# Altium schematic symbol library Nuvoton_M0519 Series.SchLib: 5 symbols
Pins are listed as number, name and electrical type; pins without a type are passive.

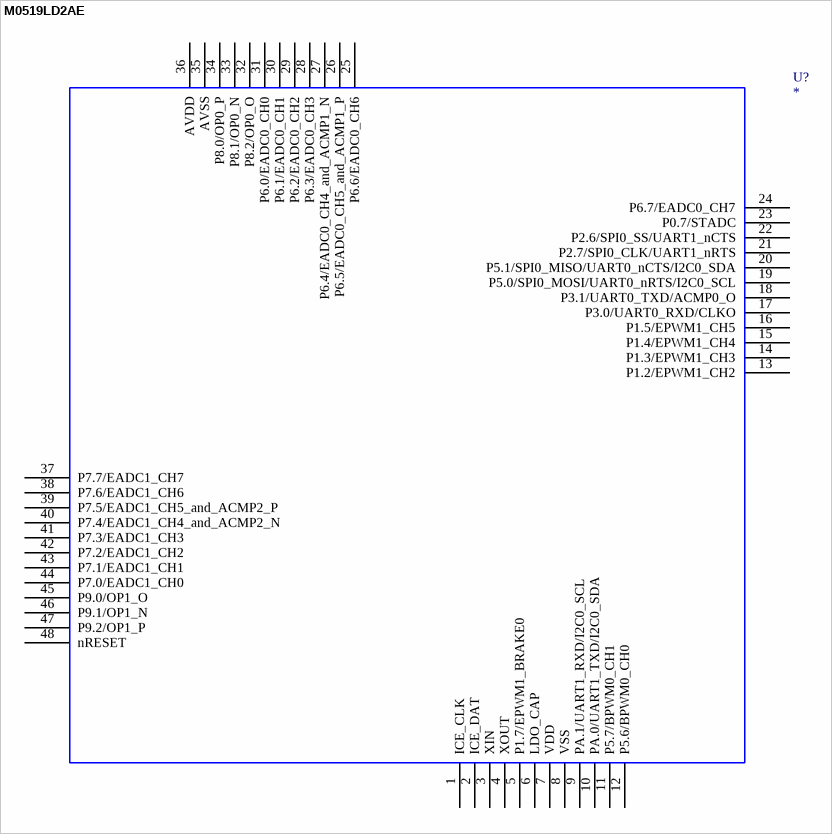
[diagram p0: symbol M0519LD2AE]

## M0519LD2AE
designator U?
M0519LD2AE; OriginalSymbolOrigin: *; M0519LD2AE: *; Value: *
footprint TSQFP50P900X900X150-48N (TSQFP, 48-Leads, Body 7.00x7.00mm, Pitch 0.50mm, IPC Medium Density)
footprint TSQFP50P900X900X150-48M (TSQFP, 48-Leads, Body 7.00x7.00mm, Pitch 0.50mm, IPC Low Density)
footprint TSQFP50P900X900X150-48L (TSQFP, 48-Leads, Body 7.00x7.00mm, Pitch 0.50mm, IPC High Density)
pins: 1 ICE_CLK, 2 ICE_DAT, 3 XIN, 4 XOUT, 5 P1.7/EPWM1_BRAKE0, 6 LDO_CAP, 7 VDD, 8 VSS, 9 PA.1/UART1_RXD/I2C0_SCL, 10 PA.0/UART1_TXD/I2C0_SDA, 11 P5.7/BPWM0_CH1, 12 P5.6/BPWM0_CH0, 13 P1.2/EPWM1_CH2, 14 P1.3/EPWM1_CH3, 15 P1.4/EPWM1_CH4, 16 P1.5/EPWM1_CH5, 17 P3.0/UART0_RXD/CLKO, 18 P3.1/UART0_TXD/ACMP0_O, 19 P5.0/SPI0_MOSI/UART0_nRTS/I2C0_SCL, 20 P5.1/SPI0_MISO/UART0_nCTS/I2C0_SDA, 21 P2.7/SPI0_CLK/UART1_nRTS, 22 P2.6/SPI0_SS/UART1_nCTS, 23 P0.7/STADC, 24 P6.7/EADC0_CH7, 25 P6.6/EADC0_CH6, 26 P6.5/EADC0_CH5_and_ACMP1_P, 27 P6.4/EADC0_CH4_and_ACMP1_N, 28 P6.3/EADC0_CH3, 29 P6.2/EADC0_CH2, 30 P6.1/EADC0_CH1, 31 P6.0/EADC0_CH0, 32 P8.2/OP0_O, 33 P8.1/OP0_N, 34 P8.0/OP0_P, 35 AVSS, 36 AVDD, 37 P7.7/EADC1_CH7, 38 P7.6/EADC1_CH6, 39 P7.5/EADC1_CH5_and_ACMP2_P, 40 P7.4/EADC1_CH4_and_ACMP2_N, 41 P7.3/EADC1_CH3, 42 P7.2/EADC1_CH2, 43 P7.1/EADC1_CH1, 44 P7.0/EADC1_CH0, 45 P9.0/OP1_O, 46 P9.1/OP1_N, 47 P9.2/OP1_P, 48 nRESET
2 alternate drawings of the same symbol

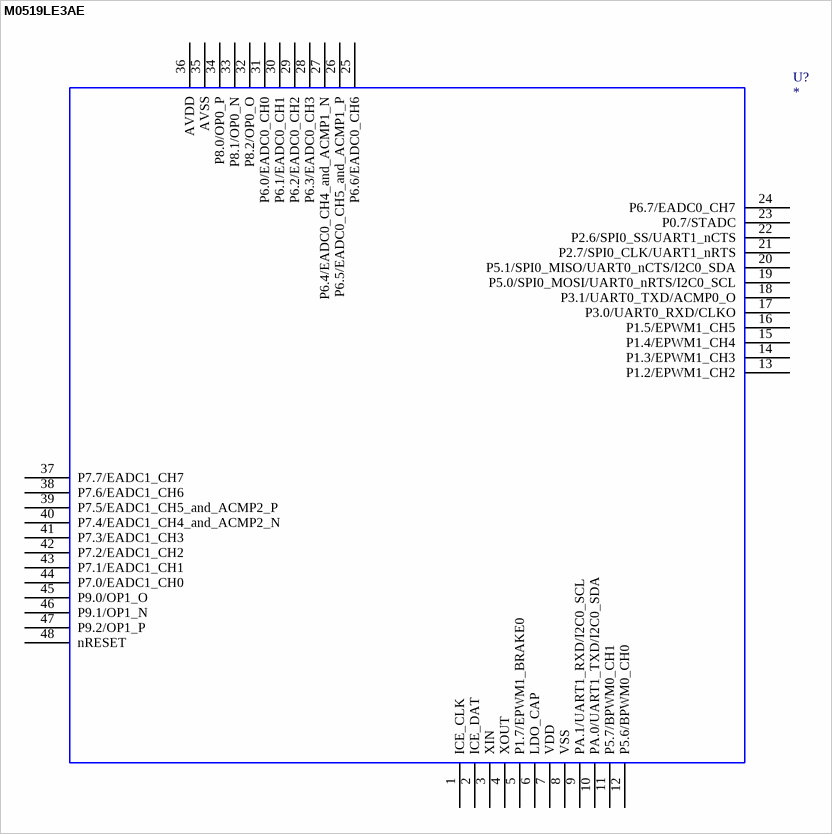
[diagram p1: symbol M0519LE3AE]

## M0519LE3AE
designator U?
M0519LE3AE; OriginalSymbolOrigin: *; M0519LE3AE: *; Value: *
footprint TSQFP50P900X900X150-48N (TSQFP, 48-Leads, Body 7.00x7.00mm, Pitch 0.50mm, IPC Medium Density)
footprint TSQFP50P900X900X150-48M (TSQFP, 48-Leads, Body 7.00x7.00mm, Pitch 0.50mm, IPC Low Density)
footprint TSQFP50P900X900X150-48L (TSQFP, 48-Leads, Body 7.00x7.00mm, Pitch 0.50mm, IPC High Density)
pins: 1 ICE_CLK, 2 ICE_DAT, 3 XIN, 4 XOUT, 5 P1.7/EPWM1_BRAKE0, 6 LDO_CAP, 7 VDD, 8 VSS, 9 PA.1/UART1_RXD/I2C0_SCL, 10 PA.0/UART1_TXD/I2C0_SDA, 11 P5.7/BPWM0_CH1, 12 P5.6/BPWM0_CH0, 13 P1.2/EPWM1_CH2, 14 P1.3/EPWM1_CH3, 15 P1.4/EPWM1_CH4, 16 P1.5/EPWM1_CH5, 17 P3.0/UART0_RXD/CLKO, 18 P3.1/UART0_TXD/ACMP0_O, 19 P5.0/SPI0_MOSI/UART0_nRTS/I2C0_SCL, 20 P5.1/SPI0_MISO/UART0_nCTS/I2C0_SDA, 21 P2.7/SPI0_CLK/UART1_nRTS, 22 P2.6/SPI0_SS/UART1_nCTS, 23 P0.7/STADC, 24 P6.7/EADC0_CH7, 25 P6.6/EADC0_CH6, 26 P6.5/EADC0_CH5_and_ACMP1_P, 27 P6.4/EADC0_CH4_and_ACMP1_N, 28 P6.3/EADC0_CH3, 29 P6.2/EADC0_CH2, 30 P6.1/EADC0_CH1, 31 P6.0/EADC0_CH0, 32 P8.2/OP0_O, 33 P8.1/OP0_N, 34 P8.0/OP0_P, 35 AVSS, 36 AVDD, 37 P7.7/EADC1_CH7, 38 P7.6/EADC1_CH6, 39 P7.5/EADC1_CH5_and_ACMP2_P, 40 P7.4/EADC1_CH4_and_ACMP2_N, 41 P7.3/EADC1_CH3, 42 P7.2/EADC1_CH2, 43 P7.1/EADC1_CH1, 44 P7.0/EADC1_CH0, 45 P9.0/OP1_O, 46 P9.1/OP1_N, 47 P9.2/OP1_P, 48 nRESET
2 alternate drawings of the same symbol

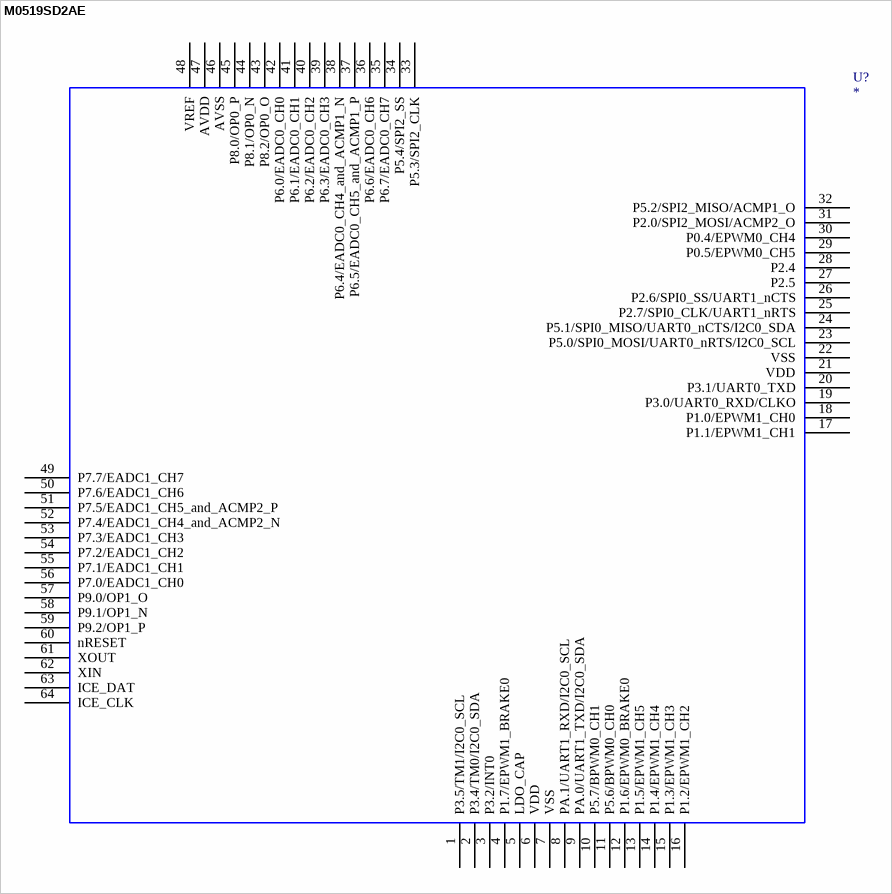
[diagram p2: symbol M0519SD2AE]

## M0519SD2AE
designator U?
M0519SD2AE; OriginalSymbolOrigin: *; M0519SD2AE: *; Value: *
footprint TSQFP40P900X900X160-64N (TSQFP, 64-Leads, Body 7.00x7.00mm, Pitch 0.40mm, IPC Medium Density)
footprint TSQFP40P900X900X160-64M (TSQFP, 64-Leads, Body 7.00x7.00mm, Pitch 0.40mm, IPC Low Density)
footprint TSQFP40P900X900X160-64L (TSQFP, 64-Leads, Body 7.00x7.00mm, Pitch 0.40mm, IPC High Density)
pins: 1 P3.5/TM1/I2C0_SCL, 2 P3.4/TM0/I2C0_SDA, 3 P3.2/INT0, 4 P1.7/EPWM1_BRAKE0, 5 LDO_CAP, 6 VDD, 7 VSS, 8 PA.1/UART1_RXD/I2C0_SCL, 9 PA.0/UART1_TXD/I2C0_SDA, 10 P5.7/BPWM0_CH1, 11 P5.6/BPWM0_CH0, 12 P1.6/EPWM0_BRAKE0, 13 P1.5/EPWM1_CH5, 14 P1.4/EPWM1_CH4, 15 P1.3/EPWM1_CH3, 16 P1.2/EPWM1_CH2, 17 P1.1/EPWM1_CH1, 18 P1.0/EPWM1_CH0, 19 P3.0/UART0_RXD/CLKO, 20 P3.1/UART0_TXD, 21 VDD, 22 VSS, 23 P5.0/SPI0_MOSI/UART0_nRTS/I2C0_SCL, 24 P5.1/SPI0_MISO/UART0_nCTS/I2C0_SDA, 25 P2.7/SPI0_CLK/UART1_nRTS, 26 P2.6/SPI0_SS/UART1_nCTS, 27 P2.5, 28 P2.4, 29 P0.5/EPWM0_CH5, 30 P0.4/EPWM0_CH4, 31 P2.0/SPI2_MOSI/ACMP2_O, 32 P5.2/SPI2_MISO/ACMP1_O, 33 P5.3/SPI2_CLK, 34 P5.4/SPI2_SS, 35 P6.7/EADC0_CH7, 36 P6.6/EADC0_CH6, 37 P6.5/EADC0_CH5_and_ACMP1_P, 38 P6.4/EADC0_CH4_and_ACMP1_N, 39 P6.3/EADC0_CH3, 40 P6.2/EADC0_CH2, 41 P6.1/EADC0_CH1, 42 P6.0/EADC0_CH0, 43 P8.2/OP0_O, 44 P8.1/OP0_N, 45 P8.0/OP0_P, 46 AVSS, 47 AVDD, 48 VREF, 49 P7.7/EADC1_CH7, 50 P7.6/EADC1_CH6, 51 P7.5/EADC1_CH5_and_ACMP2_P, 52 P7.4/EADC1_CH4_and_ACMP2_N, 53 P7.3/EADC1_CH3, 54 P7.2/EADC1_CH2, 55 P7.1/EADC1_CH1, 56 P7.0/EADC1_CH0, 57 P9.0/OP1_O, 58 P9.1/OP1_N, 59 P9.2/OP1_P, 60 nRESET, 61 XOUT, 62 XIN, 63 ICE_DAT, 64 ICE_CLK
2 alternate drawings of the same symbol

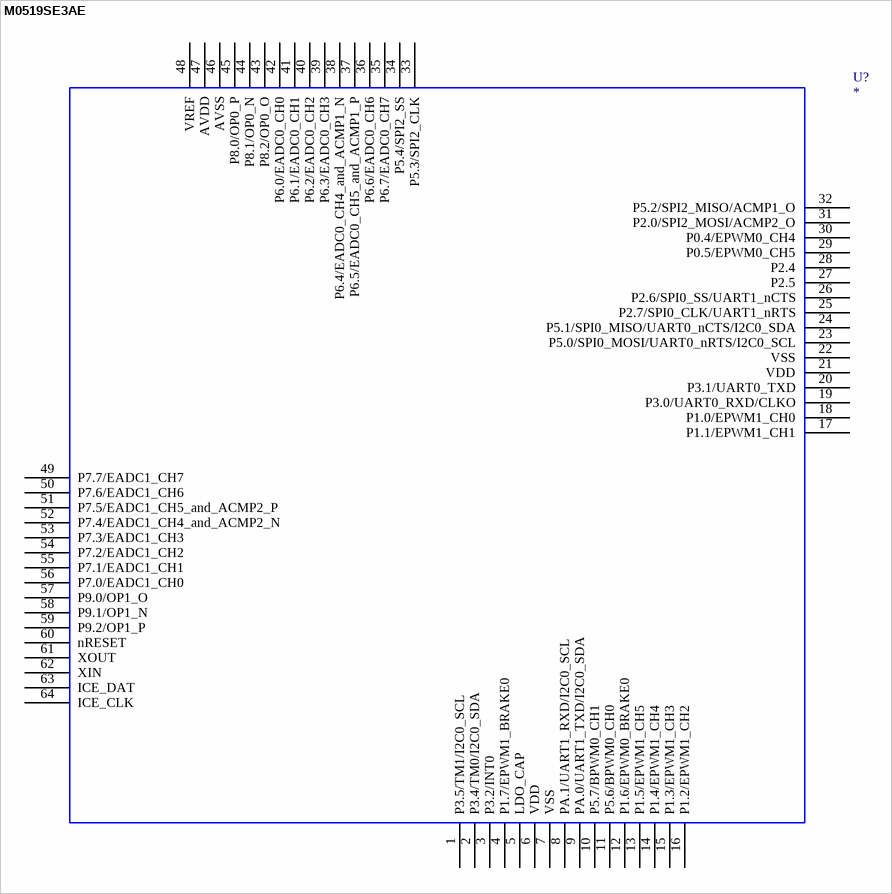
[diagram p3: symbol M0519SE3AE]

## M0519SE3AE
designator U?
M0519SE3AE; OriginalSymbolOrigin: *; M0519SE3AE: *; Value: *
footprint TSQFP40P900X900X160-64N (TSQFP, 64-Leads, Body 7.00x7.00mm, Pitch 0.40mm, IPC Medium Density)
footprint TSQFP40P900X900X160-64M (TSQFP, 64-Leads, Body 7.00x7.00mm, Pitch 0.40mm, IPC Low Density)
footprint TSQFP40P900X900X160-64L (TSQFP, 64-Leads, Body 7.00x7.00mm, Pitch 0.40mm, IPC High Density)
pins: 1 P3.5/TM1/I2C0_SCL, 2 P3.4/TM0/I2C0_SDA, 3 P3.2/INT0, 4 P1.7/EPWM1_BRAKE0, 5 LDO_CAP, 6 VDD, 7 VSS, 8 PA.1/UART1_RXD/I2C0_SCL, 9 PA.0/UART1_TXD/I2C0_SDA, 10 P5.7/BPWM0_CH1, 11 P5.6/BPWM0_CH0, 12 P1.6/EPWM0_BRAKE0, 13 P1.5/EPWM1_CH5, 14 P1.4/EPWM1_CH4, 15 P1.3/EPWM1_CH3, 16 P1.2/EPWM1_CH2, 17 P1.1/EPWM1_CH1, 18 P1.0/EPWM1_CH0, 19 P3.0/UART0_RXD/CLKO, 20 P3.1/UART0_TXD, 21 VDD, 22 VSS, 23 P5.0/SPI0_MOSI/UART0_nRTS/I2C0_SCL, 24 P5.1/SPI0_MISO/UART0_nCTS/I2C0_SDA, 25 P2.7/SPI0_CLK/UART1_nRTS, 26 P2.6/SPI0_SS/UART1_nCTS, 27 P2.5, 28 P2.4, 29 P0.5/EPWM0_CH5, 30 P0.4/EPWM0_CH4, 31 P2.0/SPI2_MOSI/ACMP2_O, 32 P5.2/SPI2_MISO/ACMP1_O, 33 P5.3/SPI2_CLK, 34 P5.4/SPI2_SS, 35 P6.7/EADC0_CH7, 36 P6.6/EADC0_CH6, 37 P6.5/EADC0_CH5_and_ACMP1_P, 38 P6.4/EADC0_CH4_and_ACMP1_N, 39 P6.3/EADC0_CH3, 40 P6.2/EADC0_CH2, 41 P6.1/EADC0_CH1, 42 P6.0/EADC0_CH0, 43 P8.2/OP0_O, 44 P8.1/OP0_N, 45 P8.0/OP0_P, 46 AVSS, 47 AVDD, 48 VREF, 49 P7.7/EADC1_CH7, 50 P7.6/EADC1_CH6, 51 P7.5/EADC1_CH5_and_ACMP2_P, 52 P7.4/EADC1_CH4_and_ACMP2_N, 53 P7.3/EADC1_CH3, 54 P7.2/EADC1_CH2, 55 P7.1/EADC1_CH1, 56 P7.0/EADC1_CH0, 57 P9.0/OP1_O, 58 P9.1/OP1_N, 59 P9.2/OP1_P, 60 nRESET, 61 XOUT, 62 XIN, 63 ICE_DAT, 64 ICE_CLK
2 alternate drawings of the same symbol

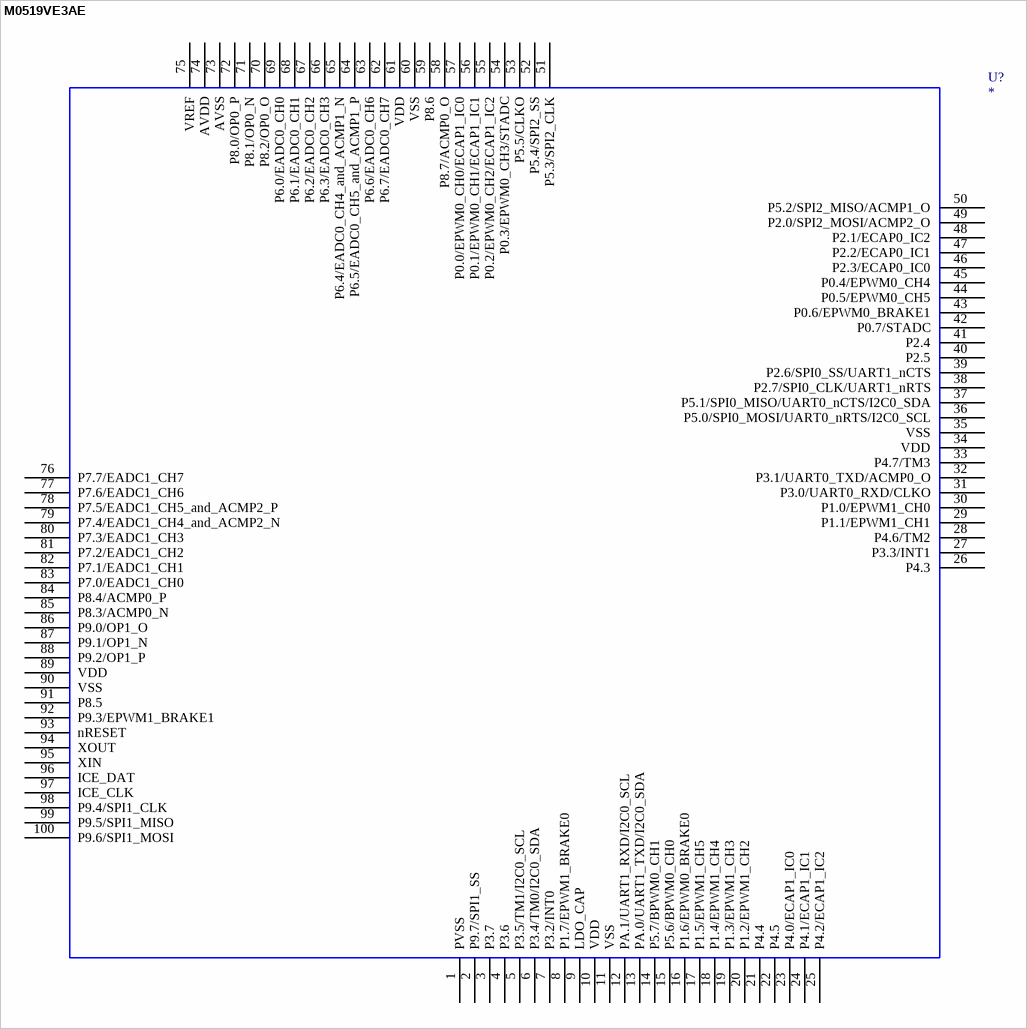
[diagram p4: symbol M0519VE3AE]

## M0519VE3AE
designator U?
M0519VE3AE; OriginalSymbolOrigin: *; M0519VE3AE: *; Value: *
footprint TSQFP50P1600X1600X160-100N (TSQFP, 100-Leads, Body 14.00x14.00mm, Pitch 0.50mm, IPC Medium Density)
footprint TSQFP50P1600X1600X160-100M (TSQFP, 100-Leads, Body 14.00x14.00mm, Pitch 0.50mm, IPC Low Density)
footprint TSQFP50P1600X1600X160-100L (TSQFP, 100-Leads, Body 14.00x14.00mm, Pitch 0.50mm, IPC High Density)
pins: 1 PVSS, 2 P9.7/SPI1_SS, 3 P3.7, 4 P3.6, 5 P3.5/TM1/I2C0_SCL, 6 P3.4/TM0/I2C0_SDA, 7 P3.2/INT0, 8 P1.7/EPWM1_BRAKE0, 9 LDO_CAP, 10 VDD, 11 VSS, 12 PA.1/UART1_RXD/I2C0_SCL, 13 PA.0/UART1_TXD/I2C0_SDA, 14 P5.7/BPWM0_CH1, 15 P5.6/BPWM0_CH0, 16 P1.6/EPWM0_BRAKE0, 17 P1.5/EPWM1_CH5, 18 P1.4/EPWM1_CH4, 19 P1.3/EPWM1_CH3, 20 P1.2/EPWM1_CH2, 21 P4.4, 22 P4.5, 23 P4.0/ECAP1_IC0, 24 P4.1/ECAP1_IC1, 25 P4.2/ECAP1_IC2, 26 P4.3, 27 P3.3/INT1, 28 P4.6/TM2, 29 P1.1/EPWM1_CH1, 30 P1.0/EPWM1_CH0, 31 P3.0/UART0_RXD/CLKO, 32 P3.1/UART0_TXD/ACMP0_O, 33 P4.7/TM3, 34 VDD, 35 VSS, 36 P5.0/SPI0_MOSI/UART0_nRTS/I2C0_SCL, 37 P5.1/SPI0_MISO/UART0_nCTS/I2C0_SDA, 38 P2.7/SPI0_CLK/UART1_nRTS, 39 P2.6/SPI0_SS/UART1_nCTS, 40 P2.5, 41 P2.4, 42 P0.7/STADC, 43 P0.6/EPWM0_BRAKE1, 44 P0.5/EPWM0_CH5, 45 P0.4/EPWM0_CH4, 46 P2.3/ECAP0_IC0, 47 P2.2/ECAP0_IC1, 48 P2.1/ECAP0_IC2, 49 P2.0/SPI2_MOSI/ACMP2_O, 50 P5.2/SPI2_MISO/ACMP1_O, 51 P5.3/SPI2_CLK, 52 P5.4/SPI2_SS, 53 P5.5/CLKO, 54 P0.3/EPWM0_CH3/STADC, 55 P0.2/EPWM0_CH2/ECAP1_IC2, 56 P0.1/EPWM0_CH1/ECAP1_IC1, 57 P0.0/EPWM0_CH0/ECAP1_IC0, 58 P8.7/ACMP0_O, 59 P8.6, 60 VSS, 61 VDD, 62 P6.7/EADC0_CH7, 63 P6.6/EADC0_CH6, 64 P6.5/EADC0_CH5_and_ACMP1_P, 65 P6.4/EADC0_CH4_and_ACMP1_N, 66 P6.3/EADC0_CH3, 67 P6.2/EADC0_CH2, 68 P6.1/EADC0_CH1, 69 P6.0/EADC0_CH0, 70 P8.2/OP0_O, 71 P8.1/OP0_N, 72 P8.0/OP0_P, 73 AVSS, 74 AVDD, 75 VREF, 76 P7.7/EADC1_CH7, 77 P7.6/EADC1_CH6, 78 P7.5/EADC1_CH5_and_ACMP2_P, 79 P7.4/EADC1_CH4_and_ACMP2_N, 80 P7.3/EADC1_CH3, 81 P7.2/EADC1_CH2, 82 P7.1/EADC1_CH1, 83 P7.0/EADC1_CH0, 84 P8.4/ACMP0_P, 85 P8.3/ACMP0_N, 86 P9.0/OP1_O, 87 P9.1/OP1_N, 88 P9.2/OP1_P, 89 VDD, 90 VSS, 91 P8.5, 92 P9.3/EPWM1_BRAKE1, 93 nRESET, 94 XOUT, 95 XIN, 96 ICE_DAT, 97 ICE_CLK, 98 P9.4/SPI1_CLK, 99 P9.5/SPI1_MISO, 100 P9.6/SPI1_MOSI
2 alternate drawings of the same symbol